# Altium schematic symbol library CME6005.SchLib: 1 symbol
Pins are listed as number, name and electrical type; pins without a type are passive.

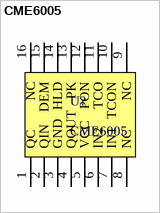
[diagram p0: symbol CME6005]

## CME6005
designator U?
pins: 1 QC, 2 QIN, 3 GND, 4 QOUT, 5 VCC, 6 IN2, 7 IN1, 8 NC, 9 NC, 10 TCON, 11 TCO, 12 PON, 13 PK, 14 HLD, 15 DEM, 16 NC